# EAGLE library part MIC4605-2YM (library libSheldonDrone)
MICROCHIP MIC4605-2YM DRIVER, MOSFET, 5.5V-16V, SOIC-8
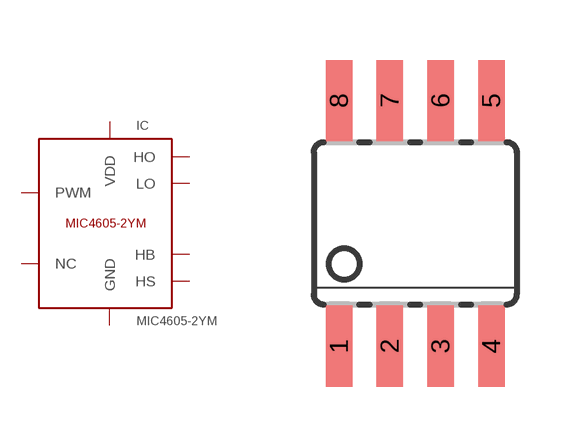
[diagram p3: symbol with the pads of SOIC08; footprint SOIC08]

Designator prefix IC

## MIC4605-2YM (FARNELL: 2510169)  [SOIC08]
1  VDD  pwr
2  HB  out
3  HO  out
4  HS  out
5  PWM  in
6  NC  in
7  GND  pwr
8  LO  out

## Footprint SOIC08 (pad centres in mm)
Small Outline Package
smd 0.66 x 2.032: 1 -1.905,-3.073; 2 -0.635,-3.073; 3 0.635,-3.073; 4 1.905,-3.073; 5 1.905,3.073; 6 0.635,3.073; 7 -0.635,3.073; 8 -1.905,3.073